# EAGLE library part SY100EP16UKG (library Micrel)
2.5/3.3V Precision ECL Diffrencial Receiver/Driver
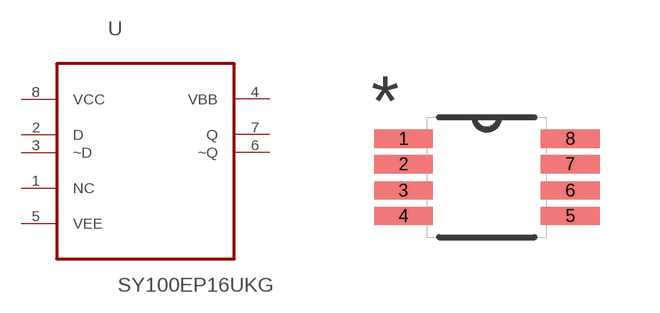
[diagram p13: symbol with the pads of SOP65P490X110-8N; footprint SOP65P490X110-8N]

Designator prefix U

## SY100EP16UKG (MPN: SY100EP16UKG; OC_FARNELL: 1864793; OC_NEWARK: 27T5914; PACKAGE: MSOP-8; SUPPLIER: Micrel)  [SOP65P490X110-8N]
1  NC  nc
2  D  in
3  ~D  in
4  VBB  out
5  VEE  pas
6  ~Q  out
7  Q  out
8  VCC  pwr

## Footprint SOP65P490X110-8N (pad centres in mm)
smd 1.473 x 0.457: 1 -2.083,0.965; 2 -2.083,0.33; 3 -2.083,-0.33; 4 -2.083,-0.965; 5 2.083,-0.965; 6 2.083,-0.33; 7 2.083,0.33; 8 2.083,0.965